# Altium footprint library SOT23c.PcbLib: 1 footprints
Each footprint in its own frame and in the unit in brackets; x right, y up, seen from the top. Pads: shape width x height; smd on the part's side, far side on the other; paste and mask are expansions set on the pad; w line width, h text height; cw(c..) or ccw(c..) is an arc to the next point about the centre after c.
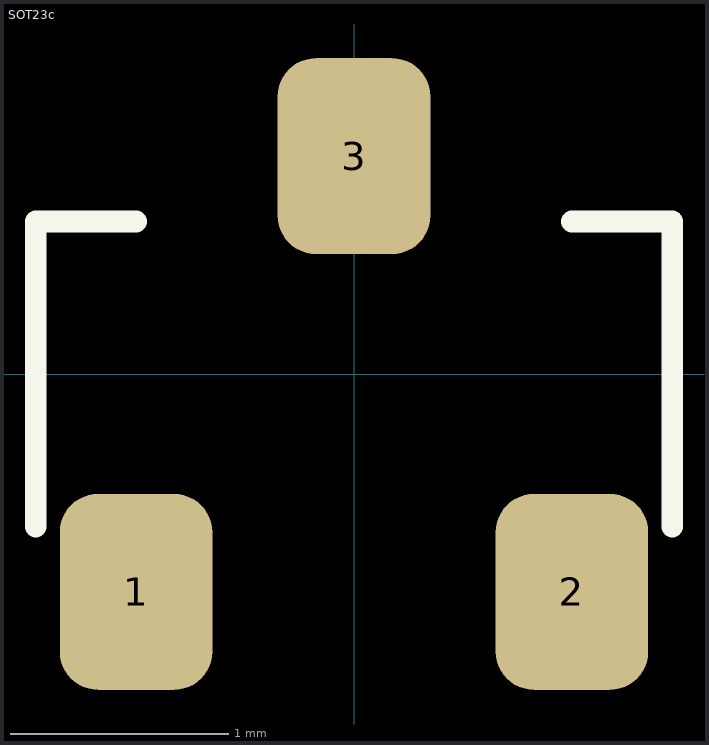
[diagram p0: the footprint, top view; thin cyan lines are the x and y axes]

## SOT23c [mm] "SOT23, 3-Leads, Body 2.9x1.3mm, Pitch 0.95mm, Lead Span 1.9mm"
height 1.1
pads (3):
  rrect50% 0.7x0.9 smd: 1(-1,-1) 2(1,-1) 3(0,1)
Top Overlay:
  lines w0.1: -1.46,-0.7 -1.46,0.7 -1,0.7 ; 1,0.7 1.46,0.7 1.46,-0.7
3D body "SOT23.STEP": height 1.1, standoff 0, extent -1.5,-1.15 1.5,1.15